# Altium integrated library Dallas Logic Delay Line.IntLib: 454 symbols (part 6 of 7)
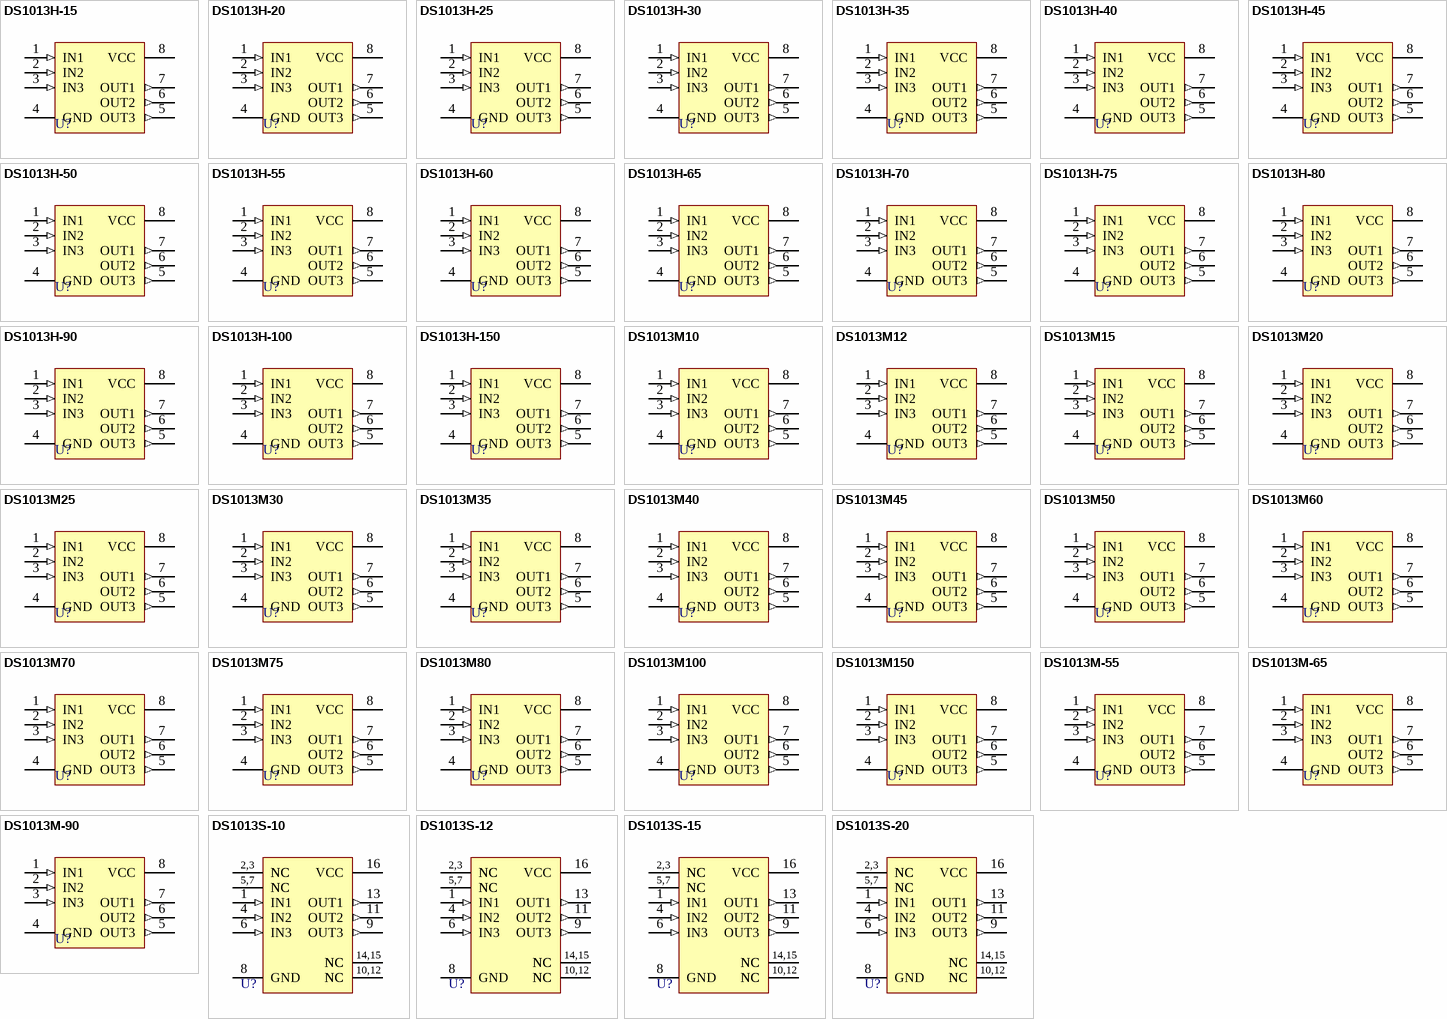
[diagram p16: symbols DS1013H-15 to DS1013S-20]

## DS1013H-60
designator U?
3-in-1 Silicon Delay Line; Published: 13-Oct-2000; LatestRevisionDate: 06-Jun-2005; LatestRevisionNote: Stylized 3D Model Added.; DatasheetDocument: Mar-1994; PackageDocument: Feb-1999; PackageReference: SOG8; Publisher: Altium Limited; ComponentLink1Description: Manufacturer Link; ComponentLink1URL: http://www.maxim-ic.com/; ComponentLink2Description: Datasheet; ComponentLink2URL: http://www.maxim-ic.com/getds.cfm?qv_pk=2605&ln=en
footprint SOG8 (Small Outline; 8 Leads; Body Width 6.4 mm; Pitch 2.54 mm)
3D model SOG8 (Small Outline; 8 Leads; Body Width 6.4 mm; Pitch 2.54 mm)
pins: 1 IN1 (in), 2 IN2 (in), 3 IN3 (in), 4 GND (power), 5 OUT3 (out), 6 OUT2 (out), 7 OUT1 (out), 8 VCC (power)

## DS1013H-65
designator U?
3-in-1 Silicon Delay Line; Published: 13-Oct-2000; LatestRevisionDate: 06-Jun-2005; LatestRevisionNote: Stylized 3D Model Added.; DatasheetDocument: Mar-1994; PackageDocument: Feb-1999; PackageReference: SOG8; Publisher: Altium Limited; ComponentLink1Description: Manufacturer Link; ComponentLink1URL: http://www.maxim-ic.com/; ComponentLink2Description: Datasheet; ComponentLink2URL: http://www.maxim-ic.com/getds.cfm?qv_pk=2605&ln=en
footprint SOG8 (Small Outline; 8 Leads; Body Width 6.4 mm; Pitch 2.54 mm)
3D model SOG8 (Small Outline; 8 Leads; Body Width 6.4 mm; Pitch 2.54 mm)
pins: 1 IN1 (in), 2 IN2 (in), 3 IN3 (in), 4 GND (power), 5 OUT3 (out), 6 OUT2 (out), 7 OUT1 (out), 8 VCC (power)

## DS1013H-70
designator U?
3-in-1 Silicon Delay Line; Published: 13-Oct-2000; LatestRevisionDate: 06-Jun-2005; LatestRevisionNote: Stylized 3D Model Added.; DatasheetDocument: Mar-1994; PackageDocument: Feb-1999; PackageReference: SOG8; Publisher: Altium Limited; ComponentLink1Description: Manufacturer Link; ComponentLink1URL: http://www.maxim-ic.com/; ComponentLink2Description: Datasheet; ComponentLink2URL: http://www.maxim-ic.com/getds.cfm?qv_pk=2605&ln=en
footprint SOG8 (Small Outline; 8 Leads; Body Width 6.4 mm; Pitch 2.54 mm)
3D model SOG8 (Small Outline; 8 Leads; Body Width 6.4 mm; Pitch 2.54 mm)
pins: 1 IN1 (in), 2 IN2 (in), 3 IN3 (in), 4 GND (power), 5 OUT3 (out), 6 OUT2 (out), 7 OUT1 (out), 8 VCC (power)

## DS1013H-75
designator U?
3-in-1 Silicon Delay Line; Published: 13-Oct-2000; LatestRevisionDate: 06-Jun-2005; LatestRevisionNote: Stylized 3D Model Added.; DatasheetDocument: Mar-1994; PackageDocument: Feb-1999; PackageReference: SOG8; Publisher: Altium Limited; ComponentLink1Description: Manufacturer Link; ComponentLink1URL: http://www.maxim-ic.com/; ComponentLink2Description: Datasheet; ComponentLink2URL: http://www.maxim-ic.com/getds.cfm?qv_pk=2605&ln=en
footprint SOG8 (Small Outline; 8 Leads; Body Width 6.4 mm; Pitch 2.54 mm)
3D model SOG8 (Small Outline; 8 Leads; Body Width 6.4 mm; Pitch 2.54 mm)
pins: 1 IN1 (in), 2 IN2 (in), 3 IN3 (in), 4 GND (power), 5 OUT3 (out), 6 OUT2 (out), 7 OUT1 (out), 8 VCC (power)

## DS1013H-80
designator U?
3-in-1 Silicon Delay Line; Published: 13-Oct-2000; LatestRevisionDate: 06-Jun-2005; LatestRevisionNote: Stylized 3D Model Added.; DatasheetDocument: Mar-1994; PackageDocument: Feb-1999; PackageReference: SOG8; Publisher: Altium Limited; ComponentLink1Description: Manufacturer Link; ComponentLink1URL: http://www.maxim-ic.com/; ComponentLink2Description: Datasheet; ComponentLink2URL: http://www.maxim-ic.com/getds.cfm?qv_pk=2605&ln=en
footprint SOG8 (Small Outline; 8 Leads; Body Width 6.4 mm; Pitch 2.54 mm)
3D model SOG8 (Small Outline; 8 Leads; Body Width 6.4 mm; Pitch 2.54 mm)
pins: 1 IN1 (in), 2 IN2 (in), 3 IN3 (in), 4 GND (power), 5 OUT3 (out), 6 OUT2 (out), 7 OUT1 (out), 8 VCC (power)

## DS1013H-90
designator U?
3-in-1 Silicon Delay Line; Published: 13-Oct-2000; LatestRevisionDate: 06-Jun-2005; LatestRevisionNote: Stylized 3D Model Added.; DatasheetDocument: Mar-1994; PackageDocument: Feb-1999; PackageReference: SOG8; Publisher: Altium Limited; ComponentLink1Description: Manufacturer Link; ComponentLink1URL: http://www.maxim-ic.com/; ComponentLink2Description: Datasheet; ComponentLink2URL: http://www.maxim-ic.com/getds.cfm?qv_pk=2605&ln=en
footprint SOG8 (Small Outline; 8 Leads; Body Width 6.4 mm; Pitch 2.54 mm)
3D model SOG8 (Small Outline; 8 Leads; Body Width 6.4 mm; Pitch 2.54 mm)
pins: 1 IN1 (in), 2 IN2 (in), 3 IN3 (in), 4 GND (power), 5 OUT3 (out), 6 OUT2 (out), 7 OUT1 (out), 8 VCC (power)

## DS1013H-100
designator U?
3-in-1 Silicon Delay Line; Published: 13-Oct-2000; LatestRevisionDate: 06-Jun-2005; LatestRevisionNote: Stylized 3D Model Added.; DatasheetDocument: Mar-1994; PackageDocument: Feb-1999; PackageReference: SOG8; Publisher: Altium Limited; ComponentLink1Description: Manufacturer Link; ComponentLink1URL: http://www.maxim-ic.com/; ComponentLink2Description: Datasheet; ComponentLink2URL: http://www.maxim-ic.com/getds.cfm?qv_pk=2605&ln=en
footprint SOG8 (Small Outline; 8 Leads; Body Width 6.4 mm; Pitch 2.54 mm)
3D model SOG8 (Small Outline; 8 Leads; Body Width 6.4 mm; Pitch 2.54 mm)
pins: 1 IN1 (in), 2 IN2 (in), 3 IN3 (in), 4 GND (power), 5 OUT3 (out), 6 OUT2 (out), 7 OUT1 (out), 8 VCC (power)

## DS1013H-150
designator U?
3-in-1 Silicon Delay Line; Published: 13-Oct-2000; LatestRevisionDate: 06-Jun-2005; LatestRevisionNote: Stylized 3D Model Added.; DatasheetDocument: Mar-1994; PackageDocument: Feb-1999; PackageReference: SOG8; Publisher: Altium Limited; ComponentLink1Description: Manufacturer Link; ComponentLink1URL: http://www.maxim-ic.com/; ComponentLink2Description: Datasheet; ComponentLink2URL: http://www.maxim-ic.com/getds.cfm?qv_pk=2605&ln=en
footprint SOG8 (Small Outline; 8 Leads; Body Width 6.4 mm; Pitch 2.54 mm)
3D model SOG8 (Small Outline; 8 Leads; Body Width 6.4 mm; Pitch 2.54 mm)
pins: 1 IN1 (in), 2 IN2 (in), 3 IN3 (in), 4 GND (power), 5 OUT3 (out), 6 OUT2 (out), 7 OUT1 (out), 8 VCC (power)

## DS1013M10
designator U?
3-in-1 Silicon Delay Line; PackageDocument: 1999; Published: 13-Oct-2000; LatestRevisionDate: 06-Jun-2005; LatestRevisionNote: Stylized 3D Model Added.; DatasheetDocument: 17-Feb-1998; PackageReference: DIP8; Publisher: Altium Limited; ComponentLink1Description: Manufacturer Link; ComponentLink1URL: http://www.maxim-ic.com/; ComponentLink2Description: Datasheet; ComponentLink2URL: http://www.maxim-ic.com/getds.cfm?qv_pk=2605&ln=en
footprint DIP8 (DIP; 8 Leads; Row Spacing 7.62 mm; Pitch 2.54 mm)
3D model DIP-8 (DIP; 8 Leads; Row Spacing 7.62 mm; Pitch 2.54 mm)
pins: 1 IN1 (in), 2 IN2 (in), 3 IN3 (in), 4 GND (power), 5 OUT3 (out), 6 OUT2 (out), 7 OUT1 (out), 8 VCC (power)

## DS1013M12
designator U?
3-in-1 Silicon Delay Line; PackageDocument: 1999; Published: 13-Oct-2000; LatestRevisionDate: 06-Jun-2005; LatestRevisionNote: Stylized 3D Model Added.; DatasheetDocument: 17-Feb-1998; PackageReference: DIP8; Publisher: Altium Limited; ComponentLink1Description: Manufacturer Link; ComponentLink1URL: http://www.maxim-ic.com/; ComponentLink2Description: Datasheet; ComponentLink2URL: http://www.maxim-ic.com/getds.cfm?qv_pk=2605&ln=en
footprint DIP8 (DIP; 8 Leads; Row Spacing 7.62 mm; Pitch 2.54 mm)
3D model DIP-8 (DIP; 8 Leads; Row Spacing 7.62 mm; Pitch 2.54 mm)
pins: 1 IN1 (in), 2 IN2 (in), 3 IN3 (in), 4 GND (power), 5 OUT3 (out), 6 OUT2 (out), 7 OUT1 (out), 8 VCC (power)

## DS1013M15
designator U?
3-in-1 Silicon Delay Line; PackageDocument: 1999; Published: 13-Oct-2000; LatestRevisionDate: 06-Jun-2005; LatestRevisionNote: Stylized 3D Model Added.; DatasheetDocument: 17-Feb-1998; PackageReference: DIP8; Publisher: Altium Limited; ComponentLink1Description: Manufacturer Link; ComponentLink1URL: http://www.maxim-ic.com/; ComponentLink2Description: Datasheet; ComponentLink2URL: http://www.maxim-ic.com/getds.cfm?qv_pk=2605&ln=en
footprint DIP8 (DIP; 8 Leads; Row Spacing 7.62 mm; Pitch 2.54 mm)
3D model DIP-8 (DIP; 8 Leads; Row Spacing 7.62 mm; Pitch 2.54 mm)
pins: 1 IN1 (in), 2 IN2 (in), 3 IN3 (in), 4 GND (power), 5 OUT3 (out), 6 OUT2 (out), 7 OUT1 (out), 8 VCC (power)

## DS1013M20
designator U?
3-in-1 Silicon Delay Line; PackageDocument: 1999; Published: 13-Oct-2000; LatestRevisionDate: 06-Jun-2005; LatestRevisionNote: Stylized 3D Model Added.; DatasheetDocument: 17-Feb-1998; PackageReference: DIP8; Publisher: Altium Limited; ComponentLink1Description: Manufacturer Link; ComponentLink1URL: http://www.maxim-ic.com/; ComponentLink2Description: Datasheet; ComponentLink2URL: http://www.maxim-ic.com/getds.cfm?qv_pk=2605&ln=en
footprint DIP8 (DIP; 8 Leads; Row Spacing 7.62 mm; Pitch 2.54 mm)
3D model DIP-8 (DIP; 8 Leads; Row Spacing 7.62 mm; Pitch 2.54 mm)
pins: 1 IN1 (in), 2 IN2 (in), 3 IN3 (in), 4 GND (power), 5 OUT3 (out), 6 OUT2 (out), 7 OUT1 (out), 8 VCC (power)

## DS1013M25
designator U?
3-in-1 Silicon Delay Line; PackageDocument: 1999; Published: 13-Oct-2000; LatestRevisionDate: 06-Jun-2005; LatestRevisionNote: Stylized 3D Model Added.; DatasheetDocument: 17-Feb-1998; PackageReference: DIP8; Publisher: Altium Limited; ComponentLink1Description: Manufacturer Link; ComponentLink1URL: http://www.maxim-ic.com/; ComponentLink2Description: Datasheet; ComponentLink2URL: http://www.maxim-ic.com/getds.cfm?qv_pk=2605&ln=en
footprint DIP8 (DIP; 8 Leads; Row Spacing 7.62 mm; Pitch 2.54 mm)
3D model DIP-8 (DIP; 8 Leads; Row Spacing 7.62 mm; Pitch 2.54 mm)
pins: 1 IN1 (in), 2 IN2 (in), 3 IN3 (in), 4 GND (power), 5 OUT3 (out), 6 OUT2 (out), 7 OUT1 (out), 8 VCC (power)

## DS1013M30
designator U?
3-in-1 Silicon Delay Line; PackageDocument: 1999; Published: 13-Oct-2000; LatestRevisionDate: 06-Jun-2005; LatestRevisionNote: Stylized 3D Model Added.; DatasheetDocument: 17-Feb-1998; PackageReference: DIP8; Publisher: Altium Limited; ComponentLink1Description: Manufacturer Link; ComponentLink1URL: http://www.maxim-ic.com/; ComponentLink2Description: Datasheet; ComponentLink2URL: http://www.maxim-ic.com/getds.cfm?qv_pk=2605&ln=en
footprint DIP8 (DIP; 8 Leads; Row Spacing 7.62 mm; Pitch 2.54 mm)
3D model DIP-8 (DIP; 8 Leads; Row Spacing 7.62 mm; Pitch 2.54 mm)
pins: 1 IN1 (in), 2 IN2 (in), 3 IN3 (in), 4 GND (power), 5 OUT3 (out), 6 OUT2 (out), 7 OUT1 (out), 8 VCC (power)

## DS1013M35
designator U?
3-in-1 Silicon Delay Line; PackageDocument: 1999; Published: 13-Oct-2000; LatestRevisionDate: 06-Jun-2005; LatestRevisionNote: Stylized 3D Model Added.; DatasheetDocument: 17-Feb-1998; PackageReference: DIP8; Publisher: Altium Limited; ComponentLink1Description: Manufacturer Link; ComponentLink1URL: http://www.maxim-ic.com/; ComponentLink2Description: Datasheet; ComponentLink2URL: http://www.maxim-ic.com/getds.cfm?qv_pk=2605&ln=en
footprint DIP8 (DIP; 8 Leads; Row Spacing 7.62 mm; Pitch 2.54 mm)
3D model DIP-8 (DIP; 8 Leads; Row Spacing 7.62 mm; Pitch 2.54 mm)
pins: 1 IN1 (in), 2 IN2 (in), 3 IN3 (in), 4 GND (power), 5 OUT3 (out), 6 OUT2 (out), 7 OUT1 (out), 8 VCC (power)

## DS1013M40
designator U?
3-in-1 Silicon Delay Line; PackageDocument: 1999; Published: 13-Oct-2000; LatestRevisionDate: 06-Jun-2005; LatestRevisionNote: Stylized 3D Model Added.; DatasheetDocument: 17-Feb-1998; PackageReference: DIP8; Publisher: Altium Limited; ComponentLink1Description: Manufacturer Link; ComponentLink1URL: http://www.maxim-ic.com/; ComponentLink2Description: Datasheet; ComponentLink2URL: http://www.maxim-ic.com/getds.cfm?qv_pk=2605&ln=en
footprint DIP8 (DIP; 8 Leads; Row Spacing 7.62 mm; Pitch 2.54 mm)
3D model DIP-8 (DIP; 8 Leads; Row Spacing 7.62 mm; Pitch 2.54 mm)
pins: 1 IN1 (in), 2 IN2 (in), 3 IN3 (in), 4 GND (power), 5 OUT3 (out), 6 OUT2 (out), 7 OUT1 (out), 8 VCC (power)

## DS1013M45
designator U?
3-in-1 Silicon Delay Line; PackageDocument: 1999; Published: 13-Oct-2000; LatestRevisionDate: 06-Jun-2005; LatestRevisionNote: Stylized 3D Model Added.; DatasheetDocument: 17-Feb-1998; PackageReference: DIP8; Publisher: Altium Limited; ComponentLink1Description: Manufacturer Link; ComponentLink1URL: http://www.maxim-ic.com/; ComponentLink2Description: Datasheet; ComponentLink2URL: http://www.maxim-ic.com/getds.cfm?qv_pk=2605&ln=en
footprint DIP8 (DIP; 8 Leads; Row Spacing 7.62 mm; Pitch 2.54 mm)
3D model DIP-8 (DIP; 8 Leads; Row Spacing 7.62 mm; Pitch 2.54 mm)
pins: 1 IN1 (in), 2 IN2 (in), 3 IN3 (in), 4 GND (power), 5 OUT3 (out), 6 OUT2 (out), 7 OUT1 (out), 8 VCC (power)

## DS1013M50
designator U?
3-in-1 Silicon Delay Line; PackageDocument: 1999; Published: 13-Oct-2000; LatestRevisionDate: 06-Jun-2005; LatestRevisionNote: Stylized 3D Model Added.; DatasheetDocument: 17-Feb-1998; PackageReference: DIP8; Publisher: Altium Limited; ComponentLink1Description: Manufacturer Link; ComponentLink1URL: http://www.maxim-ic.com/; ComponentLink2Description: Datasheet; ComponentLink2URL: http://www.maxim-ic.com/getds.cfm?qv_pk=2605&ln=en
footprint DIP8 (DIP; 8 Leads; Row Spacing 7.62 mm; Pitch 2.54 mm)
3D model DIP-8 (DIP; 8 Leads; Row Spacing 7.62 mm; Pitch 2.54 mm)
pins: 1 IN1 (in), 2 IN2 (in), 3 IN3 (in), 4 GND (power), 5 OUT3 (out), 6 OUT2 (out), 7 OUT1 (out), 8 VCC (power)

## DS1013M60
designator U?
3-in-1 Silicon Delay Line; PackageDocument: 1999; Published: 13-Oct-2000; LatestRevisionDate: 06-Jun-2005; LatestRevisionNote: Stylized 3D Model Added.; DatasheetDocument: 17-Feb-1998; PackageReference: DIP8; Publisher: Altium Limited; ComponentLink1Description: Manufacturer Link; ComponentLink1URL: http://www.maxim-ic.com/; ComponentLink2Description: Datasheet; ComponentLink2URL: http://www.maxim-ic.com/getds.cfm?qv_pk=2605&ln=en
footprint DIP8 (DIP; 8 Leads; Row Spacing 7.62 mm; Pitch 2.54 mm)
3D model DIP-8 (DIP; 8 Leads; Row Spacing 7.62 mm; Pitch 2.54 mm)
pins: 1 IN1 (in), 2 IN2 (in), 3 IN3 (in), 4 GND (power), 5 OUT3 (out), 6 OUT2 (out), 7 OUT1 (out), 8 VCC (power)

## DS1013M70
designator U?
3-in-1 Silicon Delay Line; PackageDocument: 1999; Published: 13-Oct-2000; LatestRevisionDate: 06-Jun-2005; LatestRevisionNote: Stylized 3D Model Added.; DatasheetDocument: 17-Feb-1998; PackageReference: DIP8; Publisher: Altium Limited; ComponentLink1Description: Manufacturer Link; ComponentLink1URL: http://www.maxim-ic.com/; ComponentLink2Description: Datasheet; ComponentLink2URL: http://www.maxim-ic.com/getds.cfm?qv_pk=2605&ln=en
footprint DIP8 (DIP; 8 Leads; Row Spacing 7.62 mm; Pitch 2.54 mm)
3D model DIP-8 (DIP; 8 Leads; Row Spacing 7.62 mm; Pitch 2.54 mm)
pins: 1 IN1 (in), 2 IN2 (in), 3 IN3 (in), 4 GND (power), 5 OUT3 (out), 6 OUT2 (out), 7 OUT1 (out), 8 VCC (power)

## DS1013M75
designator U?
3-in-1 Silicon Delay Line; PackageDocument: 1999; Published: 13-Oct-2000; LatestRevisionDate: 06-Jun-2005; LatestRevisionNote: Stylized 3D Model Added.; DatasheetDocument: 17-Feb-1998; PackageReference: DIP8; Publisher: Altium Limited; ComponentLink1Description: Manufacturer Link; ComponentLink1URL: http://www.maxim-ic.com/; ComponentLink2Description: Datasheet; ComponentLink2URL: http://www.maxim-ic.com/getds.cfm?qv_pk=2605&ln=en
footprint DIP8 (DIP; 8 Leads; Row Spacing 7.62 mm; Pitch 2.54 mm)
3D model DIP-8 (DIP; 8 Leads; Row Spacing 7.62 mm; Pitch 2.54 mm)
pins: 1 IN1 (in), 2 IN2 (in), 3 IN3 (in), 4 GND (power), 5 OUT3 (out), 6 OUT2 (out), 7 OUT1 (out), 8 VCC (power)

## DS1013M80
designator U?
3-in-1 Silicon Delay Line; PackageDocument: 1999; Published: 13-Oct-2000; LatestRevisionDate: 06-Jun-2005; LatestRevisionNote: Stylized 3D Model Added.; DatasheetDocument: 17-Feb-1998; PackageReference: DIP8; Publisher: Altium Limited; ComponentLink1Description: Manufacturer Link; ComponentLink1URL: http://www.maxim-ic.com/; ComponentLink2Description: Datasheet; ComponentLink2URL: http://www.maxim-ic.com/getds.cfm?qv_pk=2605&ln=en
footprint DIP8 (DIP; 8 Leads; Row Spacing 7.62 mm; Pitch 2.54 mm)
3D model DIP-8 (DIP; 8 Leads; Row Spacing 7.62 mm; Pitch 2.54 mm)
pins: 1 IN1 (in), 2 IN2 (in), 3 IN3 (in), 4 GND (power), 5 OUT3 (out), 6 OUT2 (out), 7 OUT1 (out), 8 VCC (power)

## DS1013M100
designator U?
3-in-1 Silicon Delay Line; PackageDocument: 1999; Published: 13-Oct-2000; LatestRevisionDate: 06-Jun-2005; LatestRevisionNote: Stylized 3D Model Added.; DatasheetDocument: 17-Feb-1998; PackageReference: DIP8; Publisher: Altium Limited; ComponentLink1Description: Manufacturer Link; ComponentLink1URL: http://www.maxim-ic.com/; ComponentLink2Description: Datasheet; ComponentLink2URL: http://www.maxim-ic.com/getds.cfm?qv_pk=2605&ln=en
footprint DIP8 (DIP; 8 Leads; Row Spacing 7.62 mm; Pitch 2.54 mm)
3D model DIP-8 (DIP; 8 Leads; Row Spacing 7.62 mm; Pitch 2.54 mm)
pins: 1 IN1 (in), 2 IN2 (in), 3 IN3 (in), 4 GND (power), 5 OUT3 (out), 6 OUT2 (out), 7 OUT1 (out), 8 VCC (power)

## DS1013M150
designator U?
3-in-1 Silicon Delay Line; PackageDocument: 1999; Published: 13-Oct-2000; LatestRevisionDate: 06-Jun-2005; LatestRevisionNote: Stylized 3D Model Added.; DatasheetDocument: 17-Feb-1998; PackageReference: DIP8; Publisher: Altium Limited; ComponentLink1Description: Manufacturer Link; ComponentLink1URL: http://www.maxim-ic.com/; ComponentLink2Description: Datasheet; ComponentLink2URL: http://www.maxim-ic.com/getds.cfm?qv_pk=2605&ln=en
footprint DIP8 (DIP; 8 Leads; Row Spacing 7.62 mm; Pitch 2.54 mm)
3D model DIP-8 (DIP; 8 Leads; Row Spacing 7.62 mm; Pitch 2.54 mm)
pins: 1 IN1 (in), 2 IN2 (in), 3 IN3 (in), 4 GND (power), 5 OUT3 (out), 6 OUT2 (out), 7 OUT1 (out), 8 VCC (power)

## DS1013M-55
designator U?
3-in-1 Silicon Delay Line; PackageDocument: 1999; Published: 13-Oct-2000; LatestRevisionDate: 06-Jun-2005; LatestRevisionNote: Stylized 3D Model Added.; DatasheetDocument: Mar-1994; PackageReference: DIP8; Publisher: Altium Limited; ComponentLink1Description: Manufacturer Link; ComponentLink1URL: http://www.maxim-ic.com/; ComponentLink2Description: Datasheet; ComponentLink2URL: http://www.maxim-ic.com/getds.cfm?qv_pk=2605&ln=en
footprint DIP8 (DIP; 8 Leads; Row Spacing 7.62 mm; Pitch 2.54 mm)
3D model DIP-8 (DIP; 8 Leads; Row Spacing 7.62 mm; Pitch 2.54 mm)
pins: 1 IN1 (in), 2 IN2 (in), 3 IN3 (in), 4 GND (power), 5 OUT3 (out), 6 OUT2 (out), 7 OUT1 (out), 8 VCC (power)

## DS1013M-65
designator U?
3-in-1 Silicon Delay Line; PackageDocument: 1999; Published: 13-Oct-2000; LatestRevisionDate: 06-Jun-2005; LatestRevisionNote: Stylized 3D Model Added.; DatasheetDocument: Mar-1994; PackageReference: DIP8; Publisher: Altium Limited; ComponentLink1Description: Manufacturer Link; ComponentLink1URL: http://www.maxim-ic.com/; ComponentLink2Description: Datasheet; ComponentLink2URL: http://www.maxim-ic.com/getds.cfm?qv_pk=2605&ln=en
footprint DIP8 (DIP; 8 Leads; Row Spacing 7.62 mm; Pitch 2.54 mm)
3D model DIP-8 (DIP; 8 Leads; Row Spacing 7.62 mm; Pitch 2.54 mm)
pins: 1 IN1 (in), 2 IN2 (in), 3 IN3 (in), 4 GND (power), 5 OUT3 (out), 6 OUT2 (out), 7 OUT1 (out), 8 VCC (power)

## DS1013M-90
designator U?
3-in-1 Silicon Delay Line; PackageDocument: 1999; Published: 13-Oct-2000; LatestRevisionDate: 06-Jun-2005; LatestRevisionNote: Stylized 3D Model Added.; DatasheetDocument: Mar-1994; PackageReference: DIP8; Publisher: Altium Limited; ComponentLink1Description: Manufacturer Link; ComponentLink1URL: http://www.maxim-ic.com/; ComponentLink2Description: Datasheet; ComponentLink2URL: http://www.maxim-ic.com/getds.cfm?qv_pk=2605&ln=en
footprint DIP8 (DIP; 8 Leads; Row Spacing 7.62 mm; Pitch 2.54 mm)
3D model DIP-8 (DIP; 8 Leads; Row Spacing 7.62 mm; Pitch 2.54 mm)
pins: 1 IN1 (in), 2 IN2 (in), 3 IN3 (in), 4 GND (power), 5 OUT3 (out), 6 OUT2 (out), 7 OUT1 (out), 8 VCC (power)

## DS1013S-10
designator U?
3-in-1 Silicon Delay Line; PackageDocument: 1999; Note: Pin numbers 2, 3, 5, 7, 10, 12, 14 and 15 are Not Connected (NC); Published: 13-Oct-2000; LatestRevisionDate: 06-Jun-2005; LatestRevisionNote: Stylized 3D Model Added.; DatasheetDocument: 17-Feb-1998; PackageReference: SOIC16W; Publisher: Altium Limited; ComponentLink1Description: Manufacturer Link; ComponentLink1URL: http://www.maxim-ic.com/; ComponentLink2Description: Datasheet; ComponentLink2URL: http://www.maxim-ic.com/getds.cfm?qv_pk=2605&ln=en
footprint SOIC16W (Small Outline; 16 Leads; Body Width 7.5 mm; Pitch 1.27 mm)
3D model SOIC16W (Small Outline; 16 Leads; Body Width 7.5 mm; Pitch 1.27 mm)
pins: 1 IN1 (in), 2 NC, 3 NC, 4 IN2 (in), 5 NC, 6 IN3 (in), 7 NC, 8 GND (power), 9 OUT3 (out), 10 NC, 11 OUT2 (out), 12 NC, 13 OUT1 (out), 14 NC, 15 NC, 16 VCC (power)
text: 2,3; 5,7; 14,15; 10,12

## DS1013S-12
designator U?
3-in-1 Silicon Delay Line; PackageDocument: 1999; Note: Pin numbers 2, 3, 5, 7, 10, 12, 14 and 15 are Not Connected (NC); Published: 13-Oct-2000; LatestRevisionDate: 06-Jun-2005; LatestRevisionNote: Stylized 3D Model Added.; DatasheetDocument: 17-Feb-1998; PackageReference: SOIC16W; Publisher: Altium Limited; ComponentLink1Description: Manufacturer Link; ComponentLink1URL: http://www.maxim-ic.com/; ComponentLink2Description: Datasheet; ComponentLink2URL: http://www.maxim-ic.com/getds.cfm?qv_pk=2605&ln=en
footprint SOIC16W (Small Outline; 16 Leads; Body Width 7.5 mm; Pitch 1.27 mm)
3D model SOIC16W (Small Outline; 16 Leads; Body Width 7.5 mm; Pitch 1.27 mm)
pins: 1 IN1 (in), 2 NC, 3 NC, 4 IN2 (in), 5 NC, 6 IN3 (in), 7 NC, 8 GND (power), 9 OUT3 (out), 10 NC, 11 OUT2 (out), 12 NC, 13 OUT1 (out), 14 NC, 15 NC, 16 VCC (power)
text: 2,3; 5,7; 14,15; 10,12

## DS1013S-15
designator U?
3-in-1 Silicon Delay Line; PackageDocument: 1999; Note: Pin numbers 2, 3, 5, 7, 10, 12, 14 and 15 are Not Connected (NC); Published: 13-Oct-2000; LatestRevisionDate: 06-Jun-2005; LatestRevisionNote: Stylized 3D Model Added.; DatasheetDocument: 17-Feb-1998; PackageReference: SOIC16W; Publisher: Altium Limited; ComponentLink1Description: Manufacturer Link; ComponentLink1URL: http://www.maxim-ic.com/; ComponentLink2Description: Datasheet; ComponentLink2URL: http://www.maxim-ic.com/getds.cfm?qv_pk=2605&ln=en
footprint SOIC16W (Small Outline; 16 Leads; Body Width 7.5 mm; Pitch 1.27 mm)
3D model SOIC16W (Small Outline; 16 Leads; Body Width 7.5 mm; Pitch 1.27 mm)
pins: 1 IN1 (in), 2 NC, 3 NC, 4 IN2 (in), 5 NC, 6 IN3 (in), 7 NC, 8 GND (power), 9 OUT3 (out), 10 NC, 11 OUT2 (out), 12 NC, 13 OUT1 (out), 14 NC, 15 NC, 16 VCC (power)
text: 2,3; 5,7; 14,15; 10,12

## DS1013S-20
designator U?
3-in-1 Silicon Delay Line; PackageDocument: 1999; Note: Pin numbers 2, 3, 5, 7, 10, 12, 14 and 15 are Not Connected (NC); Published: 13-Oct-2000; LatestRevisionDate: 06-Jun-2005; LatestRevisionNote: Stylized 3D Model Added.; DatasheetDocument: 17-Feb-1998; PackageReference: SOIC16W; Publisher: Altium Limited; ComponentLink1Description: Manufacturer Link; ComponentLink1URL: http://www.maxim-ic.com/; ComponentLink2Description: Datasheet; ComponentLink2URL: http://www.maxim-ic.com/getds.cfm?qv_pk=2605&ln=en
footprint SOIC16W (Small Outline; 16 Leads; Body Width 7.5 mm; Pitch 1.27 mm)
3D model SOIC16W (Small Outline; 16 Leads; Body Width 7.5 mm; Pitch 1.27 mm)
pins: 1 IN1 (in), 2 NC, 3 NC, 4 IN2 (in), 5 NC, 6 IN3 (in), 7 NC, 8 GND (power), 9 OUT3 (out), 10 NC, 11 OUT2 (out), 12 NC, 13 OUT1 (out), 14 NC, 15 NC, 16 VCC (power)
text: 2,3; 5,7; 14,15; 10,12

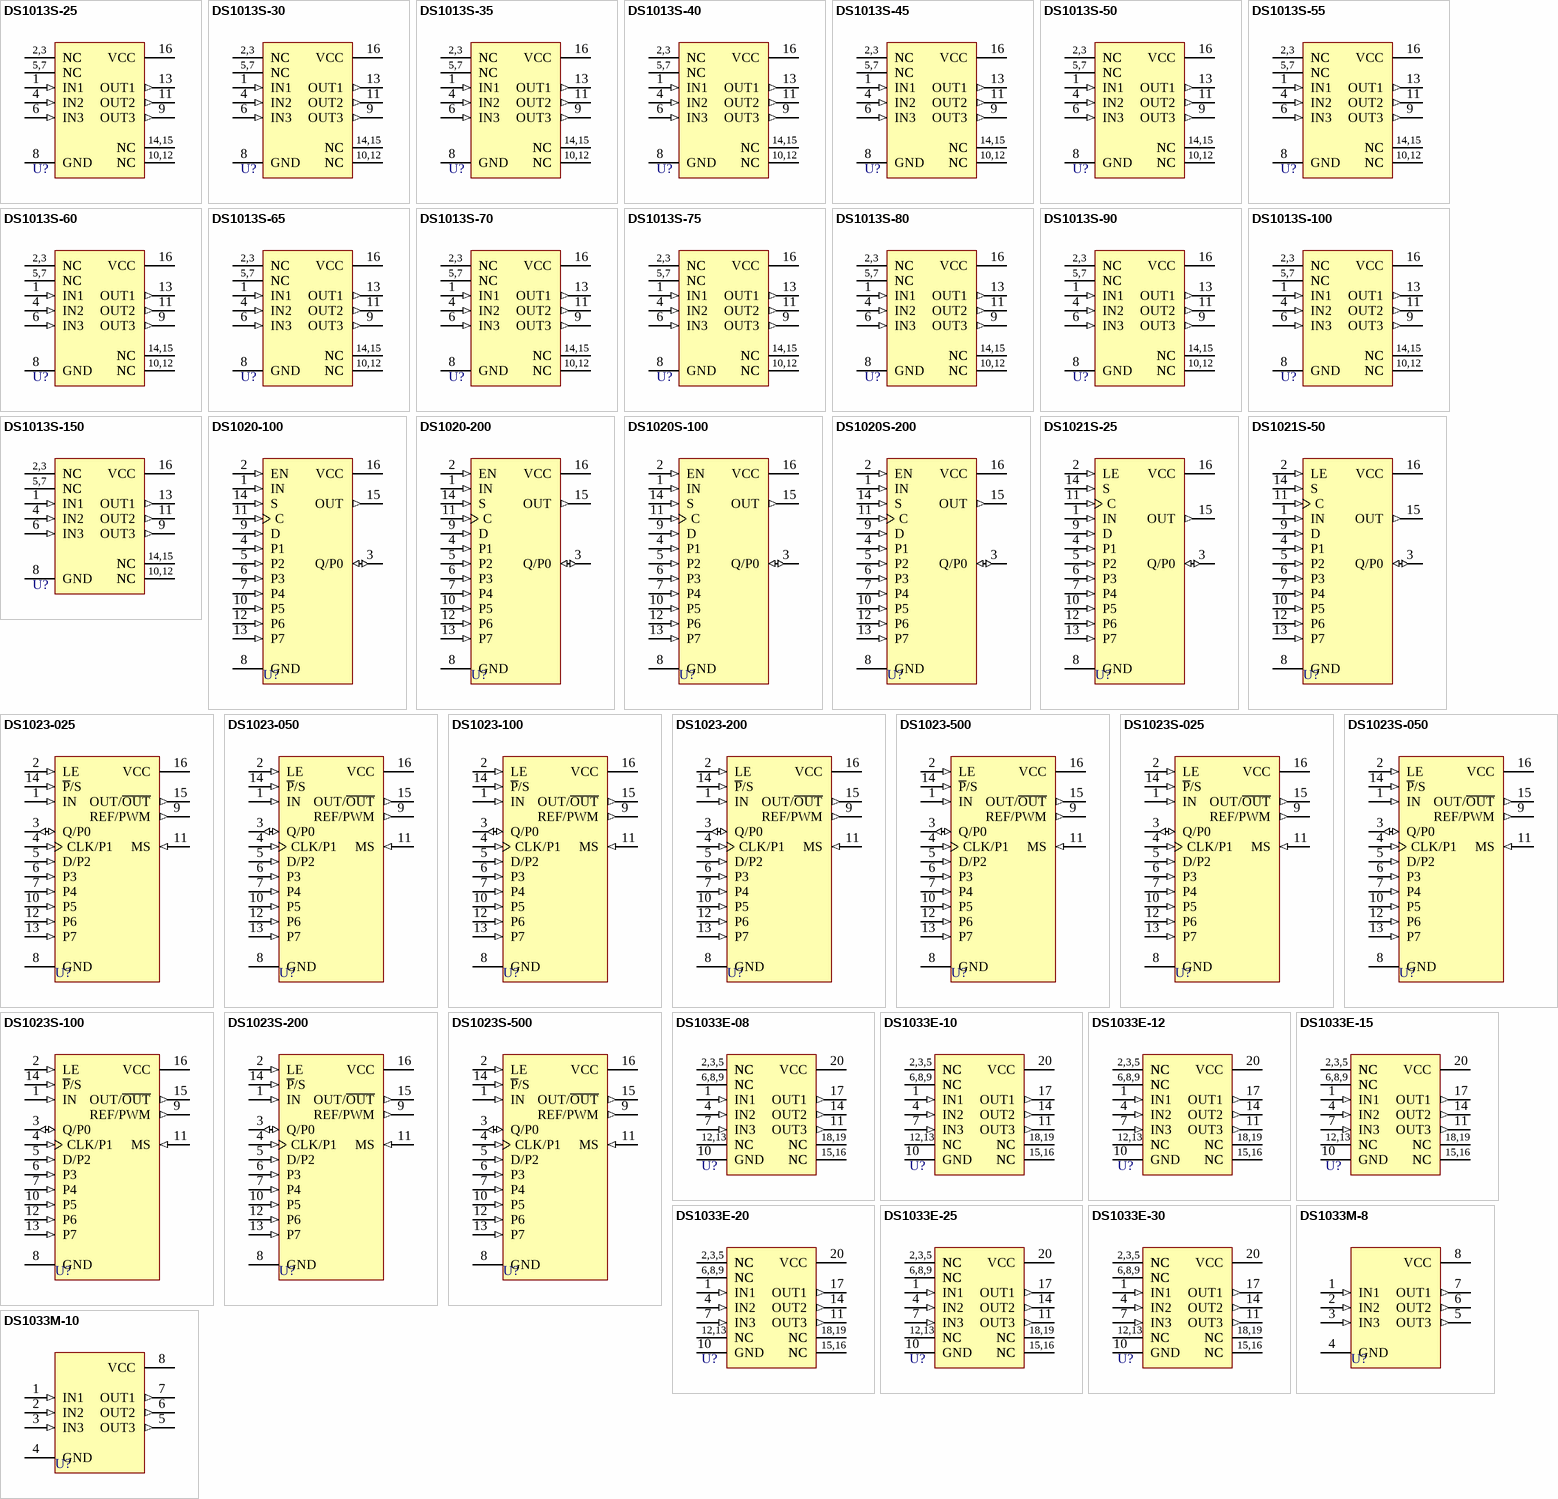
[diagram p9: symbols DS1013S-25 to DS1033M-10]

## DS1013S-25
designator U?
3-in-1 Silicon Delay Line; PackageDocument: 1999; Note: Pin numbers 2, 3, 5, 7, 10, 12, 14 and 15 are Not Connected (NC); Published: 13-Oct-2000; LatestRevisionDate: 06-Jun-2005; LatestRevisionNote: Stylized 3D Model Added.; DatasheetDocument: 17-Feb-1998; PackageReference: SOIC16W; Publisher: Altium Limited; ComponentLink1Description: Manufacturer Link; ComponentLink1URL: http://www.maxim-ic.com/; ComponentLink2Description: Datasheet; ComponentLink2URL: http://www.maxim-ic.com/getds.cfm?qv_pk=2605&ln=en
footprint SOIC16W (Small Outline; 16 Leads; Body Width 7.5 mm; Pitch 1.27 mm)
3D model SOIC16W (Small Outline; 16 Leads; Body Width 7.5 mm; Pitch 1.27 mm)
pins: 1 IN1 (in), 2 NC, 3 NC, 4 IN2 (in), 5 NC, 6 IN3 (in), 7 NC, 8 GND (power), 9 OUT3 (out), 10 NC, 11 OUT2 (out), 12 NC, 13 OUT1 (out), 14 NC, 15 NC, 16 VCC (power)
text: 2,3; 5,7; 14,15; 10,12

## DS1013S-30
designator U?
3-in-1 Silicon Delay Line; PackageDocument: 1999; Note: Pin numbers 2, 3, 5, 7, 10, 12, 14 and 15 are Not Connected (NC); Published: 13-Oct-2000; LatestRevisionDate: 06-Jun-2005; LatestRevisionNote: Stylized 3D Model Added.; DatasheetDocument: 17-Feb-1998; PackageReference: SOIC16W; Publisher: Altium Limited; ComponentLink1Description: Manufacturer Link; ComponentLink1URL: http://www.maxim-ic.com/; ComponentLink2Description: Datasheet; ComponentLink2URL: http://www.maxim-ic.com/getds.cfm?qv_pk=2605&ln=en
footprint SOIC16W (Small Outline; 16 Leads; Body Width 7.5 mm; Pitch 1.27 mm)
3D model SOIC16W (Small Outline; 16 Leads; Body Width 7.5 mm; Pitch 1.27 mm)
pins: 1 IN1 (in), 2 NC, 3 NC, 4 IN2 (in), 5 NC, 6 IN3 (in), 7 NC, 8 GND (power), 9 OUT3 (out), 10 NC, 11 OUT2 (out), 12 NC, 13 OUT1 (out), 14 NC, 15 NC, 16 VCC (power)
text: 2,3; 5,7; 14,15; 10,12

## DS1013S-35
designator U?
3-in-1 Silicon Delay Line; PackageDocument: 1999; Note: Pin numbers 2, 3, 5, 7, 10, 12, 14 and 15 are Not Connected (NC); Published: 13-Oct-2000; LatestRevisionDate: 06-Jun-2005; LatestRevisionNote: Stylized 3D Model Added.; DatasheetDocument: 17-Feb-1998; PackageReference: SOIC16W; Publisher: Altium Limited; ComponentLink1Description: Manufacturer Link; ComponentLink1URL: http://www.maxim-ic.com/; ComponentLink2Description: Datasheet; ComponentLink2URL: http://www.maxim-ic.com/getds.cfm?qv_pk=2605&ln=en
footprint SOIC16W (Small Outline; 16 Leads; Body Width 7.5 mm; Pitch 1.27 mm)
3D model SOIC16W (Small Outline; 16 Leads; Body Width 7.5 mm; Pitch 1.27 mm)
pins: 1 IN1 (in), 2 NC, 3 NC, 4 IN2 (in), 5 NC, 6 IN3 (in), 7 NC, 8 GND (power), 9 OUT3 (out), 10 NC, 11 OUT2 (out), 12 NC, 13 OUT1 (out), 14 NC, 15 NC, 16 VCC (power)
text: 2,3; 5,7; 14,15; 10,12

## DS1013S-40
designator U?
3-in-1 Silicon Delay Line; PackageDocument: 1999; Note: Pin numbers 2, 3, 5, 7, 10, 12, 14 and 15 are Not Connected (NC); Published: 13-Oct-2000; LatestRevisionDate: 06-Jun-2005; LatestRevisionNote: Stylized 3D Model Added.; DatasheetDocument: 17-Feb-1998; PackageReference: SOIC16W; Publisher: Altium Limited; ComponentLink1Description: Manufacturer Link; ComponentLink1URL: http://www.maxim-ic.com/; ComponentLink2Description: Datasheet; ComponentLink2URL: http://www.maxim-ic.com/getds.cfm?qv_pk=2605&ln=en
footprint SOIC16W (Small Outline; 16 Leads; Body Width 7.5 mm; Pitch 1.27 mm)
3D model SOIC16W (Small Outline; 16 Leads; Body Width 7.5 mm; Pitch 1.27 mm)
pins: 1 IN1 (in), 2 NC, 3 NC, 4 IN2 (in), 5 NC, 6 IN3 (in), 7 NC, 8 GND (power), 9 OUT3 (out), 10 NC, 11 OUT2 (out), 12 NC, 13 OUT1 (out), 14 NC, 15 NC, 16 VCC (power)
text: 2,3; 5,7; 14,15; 10,12

## DS1013S-45
designator U?
3-in-1 Silicon Delay Line; PackageDocument: 1999; Note: Pin numbers 2, 3, 5, 7, 10, 12, 14 and 15 are Not Connected (NC); Published: 13-Oct-2000; LatestRevisionDate: 06-Jun-2005; LatestRevisionNote: Stylized 3D Model Added.; DatasheetDocument: 17-Feb-1998; PackageReference: SOIC16W; Publisher: Altium Limited; ComponentLink1Description: Manufacturer Link; ComponentLink1URL: http://www.maxim-ic.com/; ComponentLink2Description: Datasheet; ComponentLink2URL: http://www.maxim-ic.com/getds.cfm?qv_pk=2605&ln=en
footprint SOIC16W (Small Outline; 16 Leads; Body Width 7.5 mm; Pitch 1.27 mm)
3D model SOIC16W (Small Outline; 16 Leads; Body Width 7.5 mm; Pitch 1.27 mm)
pins: 1 IN1 (in), 2 NC, 3 NC, 4 IN2 (in), 5 NC, 6 IN3 (in), 7 NC, 8 GND (power), 9 OUT3 (out), 10 NC, 11 OUT2 (out), 12 NC, 13 OUT1 (out), 14 NC, 15 NC, 16 VCC (power)
text: 2,3; 5,7; 14,15; 10,12

## DS1013S-50
designator U?
3-in-1 Silicon Delay Line; PackageDocument: 1999; Note: Pin numbers 2, 3, 5, 7, 10, 12, 14 and 15 are Not Connected (NC); Published: 13-Oct-2000; LatestRevisionDate: 06-Jun-2005; LatestRevisionNote: Stylized 3D Model Added.; DatasheetDocument: 17-Feb-1998; PackageReference: SOIC16W; Publisher: Altium Limited; ComponentLink1Description: Manufacturer Link; ComponentLink1URL: http://www.maxim-ic.com/; ComponentLink2Description: Datasheet; ComponentLink2URL: http://www.maxim-ic.com/getds.cfm?qv_pk=2605&ln=en
footprint SOIC16W (Small Outline; 16 Leads; Body Width 7.5 mm; Pitch 1.27 mm)
3D model SOIC16W (Small Outline; 16 Leads; Body Width 7.5 mm; Pitch 1.27 mm)
pins: 1 IN1 (in), 2 NC, 3 NC, 4 IN2 (in), 5 NC, 6 IN3 (in), 7 NC, 8 GND (power), 9 OUT3 (out), 10 NC, 11 OUT2 (out), 12 NC, 13 OUT1 (out), 14 NC, 15 NC, 16 VCC (power)
text: 2,3; 5,7; 14,15; 10,12

## DS1013S-55
designator U?
3-in-1 Silicon Delay Line; PackageDocument: 1994; Note: Pin numbers 2, 3, 5, 7, 10, 12, 14 and 15 are Not Connected (NC); Published: 13-Oct-2000; LatestRevisionDate: 06-Jun-2005; LatestRevisionNote: Stylized 3D Model Added.; DatasheetDocument: Mar-1994; PackageReference: SOIC16WA; Publisher: Altium Limited; ComponentLink1Description: Manufacturer Link; ComponentLink1URL: http://www.maxim-ic.com/; ComponentLink2Description: Datasheet; ComponentLink2URL: http://www.maxim-ic.com/getds.cfm?qv_pk=2605&ln=en
footprint SOIC16WA (Small Outline; 16 Leads; Body Width 7.5 mm; Pitch 1.27 mm)
3D model SOIC16W (Small Outline; 16 Leads; Body Width 7.5 mm; Pitch 1.27 mm)
pins: 1 IN1 (in), 2 NC, 3 NC, 4 IN2 (in), 5 NC, 6 IN3 (in), 7 NC, 8 GND (power), 9 OUT3 (out), 10 NC, 11 OUT2 (out), 12 NC, 13 OUT1 (out), 14 NC, 15 NC, 16 VCC (power)
text: 2,3; 5,7; 14,15; 10,12

## DS1013S-60
designator U?
3-in-1 Silicon Delay Line; PackageDocument: 1999; Note: Pin numbers 2, 3, 5, 7, 10, 12, 14 and 15 are Not Connected (NC); Published: 13-Oct-2000; LatestRevisionDate: 06-Jun-2005; LatestRevisionNote: Stylized 3D Model Added.; DatasheetDocument: 17-Feb-1998; PackageReference: SOIC16W; Publisher: Altium Limited; ComponentLink1Description: Manufacturer Link; ComponentLink1URL: http://www.maxim-ic.com/; ComponentLink2Description: Datasheet; ComponentLink2URL: http://www.maxim-ic.com/getds.cfm?qv_pk=2605&ln=en
footprint SOIC16W (Small Outline; 16 Leads; Body Width 7.5 mm; Pitch 1.27 mm)
3D model SOIC16W (Small Outline; 16 Leads; Body Width 7.5 mm; Pitch 1.27 mm)
pins: 1 IN1 (in), 2 NC, 3 NC, 4 IN2 (in), 5 NC, 6 IN3 (in), 7 NC, 8 GND (power), 9 OUT3 (out), 10 NC, 11 OUT2 (out), 12 NC, 13 OUT1 (out), 14 NC, 15 NC, 16 VCC (power)
text: 2,3; 5,7; 14,15; 10,12

## DS1013S-65
designator U?
3-in-1 Silicon Delay Line; PackageDocument: 1994; Note: Pin numbers 2, 3, 5, 7, 10, 12, 14 and 15 are Not Connected (NC); Published: 13-Oct-2000; LatestRevisionDate: 06-Jun-2005; LatestRevisionNote: Stylized 3D Model Added.; DatasheetDocument: Mar-1994; PackageReference: SOIC16WA; Publisher: Altium Limited; ComponentLink1Description: Manufacturer Link; ComponentLink1URL: http://www.maxim-ic.com/; ComponentLink2Description: Datasheet; ComponentLink2URL: http://www.maxim-ic.com/getds.cfm?qv_pk=2605&ln=en
footprint SOIC16WA (Small Outline; 16 Leads; Body Width 7.5 mm; Pitch 1.27 mm)
3D model SOIC16W (Small Outline; 16 Leads; Body Width 7.5 mm; Pitch 1.27 mm)
pins: 1 IN1 (in), 2 NC, 3 NC, 4 IN2 (in), 5 NC, 6 IN3 (in), 7 NC, 8 GND (power), 9 OUT3 (out), 10 NC, 11 OUT2 (out), 12 NC, 13 OUT1 (out), 14 NC, 15 NC, 16 VCC (power)
text: 2,3; 5,7; 14,15; 10,12

## DS1013S-70
designator U?
3-in-1 Silicon Delay Line; PackageDocument: 1999; Note: Pin numbers 2, 3, 5, 7, 10, 12, 14 and 15 are Not Connected (NC); Published: 13-Oct-2000; LatestRevisionDate: 06-Jun-2005; LatestRevisionNote: Stylized 3D Model Added.; DatasheetDocument: 17-Feb-1998; PackageReference: SOIC16W; Publisher: Altium Limited; ComponentLink1Description: Manufacturer Link; ComponentLink1URL: http://www.maxim-ic.com/; ComponentLink2Description: Datasheet; ComponentLink2URL: http://www.maxim-ic.com/getds.cfm?qv_pk=2605&ln=en
footprint SOIC16W (Small Outline; 16 Leads; Body Width 7.5 mm; Pitch 1.27 mm)
3D model SOIC16W (Small Outline; 16 Leads; Body Width 7.5 mm; Pitch 1.27 mm)
pins: 1 IN1 (in), 2 NC, 3 NC, 4 IN2 (in), 5 NC, 6 IN3 (in), 7 NC, 8 GND (power), 9 OUT3 (out), 10 NC, 11 OUT2 (out), 12 NC, 13 OUT1 (out), 14 NC, 15 NC, 16 VCC (power)
text: 2,3; 5,7; 14,15; 10,12

## DS1013S-75
designator U?
3-in-1 Silicon Delay Line; PackageDocument: 1999; Note: Pin numbers 2, 3, 5, 7, 10, 12, 14 and 15 are Not Connected (NC); Published: 13-Oct-2000; LatestRevisionDate: 06-Jun-2005; LatestRevisionNote: Stylized 3D Model Added.; DatasheetDocument: 17-Feb-1998; PackageReference: SOIC16W; Publisher: Altium Limited; ComponentLink1Description: Manufacturer Link; ComponentLink1URL: http://www.maxim-ic.com/; ComponentLink2Description: Datasheet; ComponentLink2URL: http://www.maxim-ic.com/getds.cfm?qv_pk=2605&ln=en
footprint SOIC16W (Small Outline; 16 Leads; Body Width 7.5 mm; Pitch 1.27 mm)
3D model SOIC16W (Small Outline; 16 Leads; Body Width 7.5 mm; Pitch 1.27 mm)
pins: 1 IN1 (in), 2 NC, 3 NC, 4 IN2 (in), 5 NC, 6 IN3 (in), 7 NC, 8 GND (power), 9 OUT3 (out), 10 NC, 11 OUT2 (out), 12 NC, 13 OUT1 (out), 14 NC, 15 NC, 16 VCC (power)
text: 2,3; 5,7; 14,15; 10,12

## DS1013S-80
designator U?
3-in-1 Silicon Delay Line; PackageDocument: 1999; Note: Pin numbers 2, 3, 5, 7, 10, 12, 14 and 15 are Not Connected (NC); Published: 13-Oct-2000; LatestRevisionDate: 06-Jun-2005; LatestRevisionNote: Stylized 3D Model Added.; DatasheetDocument: 17-Feb-1998; PackageReference: SOIC16W; Publisher: Altium Limited; ComponentLink1Description: Manufacturer Link; ComponentLink1URL: http://www.maxim-ic.com/; ComponentLink2Description: Datasheet; ComponentLink2URL: http://www.maxim-ic.com/getds.cfm?qv_pk=2605&ln=en
footprint SOIC16W (Small Outline; 16 Leads; Body Width 7.5 mm; Pitch 1.27 mm)
3D model SOIC16W (Small Outline; 16 Leads; Body Width 7.5 mm; Pitch 1.27 mm)
pins: 1 IN1 (in), 2 NC, 3 NC, 4 IN2 (in), 5 NC, 6 IN3 (in), 7 NC, 8 GND (power), 9 OUT3 (out), 10 NC, 11 OUT2 (out), 12 NC, 13 OUT1 (out), 14 NC, 15 NC, 16 VCC (power)
text: 2,3; 5,7; 14,15; 10,12

## DS1013S-90
designator U?
3-in-1 Silicon Delay Line; PackageDocument: 1994; Note: Pin numbers 2, 3, 5, 7, 10, 12, 14 and 15 are Not Connected (NC); Published: 13-Oct-2000; LatestRevisionDate: 06-Jun-2005; LatestRevisionNote: Stylized 3D Model Added.; DatasheetDocument: Mar-1994; PackageReference: SOIC16WA; Publisher: Altium Limited; ComponentLink1Description: Manufacturer Link; ComponentLink1URL: http://www.maxim-ic.com/; ComponentLink2Description: Datasheet; ComponentLink2URL: http://www.maxim-ic.com/getds.cfm?qv_pk=2605&ln=en
footprint SOIC16WA (Small Outline; 16 Leads; Body Width 7.5 mm; Pitch 1.27 mm)
3D model SOIC16W (Small Outline; 16 Leads; Body Width 7.5 mm; Pitch 1.27 mm)
pins: 1 IN1 (in), 2 NC, 3 NC, 4 IN2 (in), 5 NC, 6 IN3 (in), 7 NC, 8 GND (power), 9 OUT3 (out), 10 NC, 11 OUT2 (out), 12 NC, 13 OUT1 (out), 14 NC, 15 NC, 16 VCC (power)
text: 2,3; 5,7; 14,15; 10,12

## DS1013S-100
designator U?
3-in-1 Silicon Delay Line; PackageDocument: 1999; Note: Pin numbers 2, 3, 5, 7, 10, 12, 14 and 15 are Not Connected (NC); Published: 13-Oct-2000; LatestRevisionDate: 06-Jun-2005; LatestRevisionNote: Stylized 3D Model Added.; DatasheetDocument: 17-Feb-1998; PackageReference: SOIC16W; Publisher: Altium Limited; ComponentLink1Description: Manufacturer Link; ComponentLink1URL: http://www.maxim-ic.com/; ComponentLink2Description: Datasheet; ComponentLink2URL: http://www.maxim-ic.com/getds.cfm?qv_pk=2605&ln=en
footprint SOIC16W (Small Outline; 16 Leads; Body Width 7.5 mm; Pitch 1.27 mm)
3D model SOIC16W (Small Outline; 16 Leads; Body Width 7.5 mm; Pitch 1.27 mm)
pins: 1 IN1 (in), 2 NC, 3 NC, 4 IN2 (in), 5 NC, 6 IN3 (in), 7 NC, 8 GND (power), 9 OUT3 (out), 10 NC, 11 OUT2 (out), 12 NC, 13 OUT1 (out), 14 NC, 15 NC, 16 VCC (power)
text: 2,3; 5,7; 14,15; 10,12

## DS1013S-150
designator U?
3-in-1 Silicon Delay Line; PackageDocument: 1999; Note: Pin numbers 2, 3, 5, 7, 10, 12, 14 and 15 are Not Connected (NC); Published: 13-Oct-2000; LatestRevisionDate: 06-Jun-2005; LatestRevisionNote: Stylized 3D Model Added.; DatasheetDocument: 17-Feb-1998; PackageReference: SOIC16W; Publisher: Altium Limited; ComponentLink1Description: Manufacturer Link; ComponentLink1URL: http://www.maxim-ic.com/; ComponentLink2Description: Datasheet; ComponentLink2URL: http://www.maxim-ic.com/getds.cfm?qv_pk=2605&ln=en
footprint SOIC16W (Small Outline; 16 Leads; Body Width 7.5 mm; Pitch 1.27 mm)
3D model SOIC16W (Small Outline; 16 Leads; Body Width 7.5 mm; Pitch 1.27 mm)
pins: 1 IN1 (in), 2 NC, 3 NC, 4 IN2 (in), 5 NC, 6 IN3 (in), 7 NC, 8 GND (power), 9 OUT3 (out), 10 NC, 11 OUT2 (out), 12 NC, 13 OUT1 (out), 14 NC, 15 NC, 16 VCC (power)
text: 2,3; 5,7; 14,15; 10,12

## DS1020-100
designator U?
Programmable 8-Bit Silicon Delay Line; PackageDocument: 1999; Published: 13-Oct-2000; LatestRevisionDate: 06-Jun-2005; LatestRevisionNote: Stylized 3D Model Added.; DatasheetDocument: 17-Feb-1998; PackageReference: DIP16; Publisher: Altium Limited; ComponentLink1Description: Manufacturer Link; ComponentLink1URL: http://www.maxim-ic.com/; ComponentLink2Description: Datasheet; ComponentLink2URL: http://www.maxim-ic.com/getds.cfm?qv_pk=2606&ln=en
footprint DIP16 (DIP; 16 Leads; Row Spacing 7.62 mm; Pitch 2.54 mm)
3D model DIP16 (DIP; 16 Leads; Row Spacing 7.62 mm; Pitch 2.54 mm)
pins: 1 IN (in), 2 EN (in), 3 Q/P0 (io), 4 P1 (in), 5 P2 (in), 6 P3 (in), 7 P4 (in), 8 GND (power), 9 D (in), 10 P5 (in), 11 C (in), 12 P6 (in), 13 P7 (in), 14 S (in), 15 OUT (out), 16 VCC (power)

## DS1020-200
designator U?
Programmable 8-Bit Silicon Delay Line; PackageDocument: 1999; Published: 13-Oct-2000; LatestRevisionDate: 06-Jun-2005; LatestRevisionNote: Stylized 3D Model Added.; DatasheetDocument: 17-Feb-1998; PackageReference: DIP16; Publisher: Altium Limited; ComponentLink1Description: Manufacturer Link; ComponentLink1URL: http://www.maxim-ic.com/; ComponentLink2Description: Datasheet; ComponentLink2URL: http://www.maxim-ic.com/getds.cfm?qv_pk=2606&ln=en
footprint DIP16 (DIP; 16 Leads; Row Spacing 7.62 mm; Pitch 2.54 mm)
3D model DIP16 (DIP; 16 Leads; Row Spacing 7.62 mm; Pitch 2.54 mm)
pins: 1 IN (in), 2 EN (in), 3 Q/P0 (io), 4 P1 (in), 5 P2 (in), 6 P3 (in), 7 P4 (in), 8 GND (power), 9 D (in), 10 P5 (in), 11 C (in), 12 P6 (in), 13 P7 (in), 14 S (in), 15 OUT (out), 16 VCC (power)

## DS1020S-100
designator U?
Programmable 8-Bit Silicon Delay Line; PackageDocument: 1999; Published: 13-Oct-2000; LatestRevisionDate: 06-Jun-2005; LatestRevisionNote: Stylized 3D Model Added.; DatasheetDocument: 17-Feb-1998; PackageReference: SOIC16W; Publisher: Altium Limited; ComponentLink1Description: Manufacturer Link; ComponentLink1URL: http://www.maxim-ic.com/; ComponentLink2Description: Datasheet; ComponentLink2URL: http://www.maxim-ic.com/getds.cfm?qv_pk=2606&ln=en
footprint SOIC16W (Small Outline; 16 Leads; Body Width 7.5 mm; Pitch 1.27 mm)
3D model SOIC16W (Small Outline; 16 Leads; Body Width 7.5 mm; Pitch 1.27 mm)
pins: 1 IN (in), 2 EN (in), 3 Q/P0 (io), 4 P1 (in), 5 P2 (in), 6 P3 (in), 7 P4 (in), 8 GND (power), 9 D (in), 10 P5 (in), 11 C (in), 12 P6 (in), 13 P7 (in), 14 S (in), 15 OUT (out), 16 VCC (power)

## DS1020S-200
designator U?
Programmable 8-Bit Silicon Delay Line; PackageDocument: 1999; Published: 13-Oct-2000; LatestRevisionDate: 06-Jun-2005; LatestRevisionNote: Stylized 3D Model Added.; DatasheetDocument: 17-Feb-1998; PackageReference: SOIC16W; Publisher: Altium Limited; ComponentLink1Description: Manufacturer Link; ComponentLink1URL: http://www.maxim-ic.com/; ComponentLink2Description: Datasheet; ComponentLink2URL: http://www.maxim-ic.com/getds.cfm?qv_pk=2606&ln=en
footprint SOIC16W (Small Outline; 16 Leads; Body Width 7.5 mm; Pitch 1.27 mm)
3D model SOIC16W (Small Outline; 16 Leads; Body Width 7.5 mm; Pitch 1.27 mm)
pins: 1 IN (in), 2 EN (in), 3 Q/P0 (io), 4 P1 (in), 5 P2 (in), 6 P3 (in), 7 P4 (in), 8 GND (power), 9 D (in), 10 P5 (in), 11 C (in), 12 P6 (in), 13 P7 (in), 14 S (in), 15 OUT (out), 16 VCC (power)

## DS1021S-25
designator U?
Programmable 8-Bit Silicon Delay Line; PackageDocument: 1999; Published: 13-Oct-2000; LatestRevisionDate: 06-Jun-2005; LatestRevisionNote: Stylized 3D Model Added.; DatasheetDocument: 17-Feb-1998; PackageReference: SOIC16W; Publisher: Altium Limited; ComponentLink1Description: Manufacturer Link; ComponentLink1URL: http://www.maxim-ic.com/; ComponentLink2Description: Datasheet; ComponentLink2URL: http://www.maxim-ic.com/getds.cfm?qv_pk=2607&ln=en
footprint SOIC16W (Small Outline; 16 Leads; Body Width 7.5 mm; Pitch 1.27 mm)
3D model SOIC16W (Small Outline; 16 Leads; Body Width 7.5 mm; Pitch 1.27 mm)
pins: 1 IN (in), 2 LE (in), 3 Q/P0 (io), 4 P1 (in), 5 P2 (in), 6 P3 (in), 7 P4 (in), 8 GND (power), 9 D (in), 10 P5 (in), 11 C (in), 12 P6 (in), 13 P7 (in), 14 S (in), 15 OUT (out), 16 VCC (power)

## DS1021S-50
designator U?
Programmable 8-Bit Silicon Delay Line; PackageDocument: 1999; Published: 13-Oct-2000; LatestRevisionDate: 06-Jun-2005; LatestRevisionNote: Stylized 3D Model Added.; DatasheetDocument: 17-Feb-1998; PackageReference: SOIC16W; Publisher: Altium Limited; ComponentLink1Description: Manufacturer Link; ComponentLink1URL: http://www.maxim-ic.com/; ComponentLink2Description: Datasheet; ComponentLink2URL: http://www.maxim-ic.com/getds.cfm?qv_pk=2607&ln=en
footprint SOIC16W (Small Outline; 16 Leads; Body Width 7.5 mm; Pitch 1.27 mm)
3D model SOIC16W (Small Outline; 16 Leads; Body Width 7.5 mm; Pitch 1.27 mm)
pins: 1 IN (in), 2 LE (in), 3 Q/P0 (io), 4 P1 (in), 5 P2 (in), 6 P3 (in), 7 P4 (in), 8 GND (power), 9 D (in), 10 P5 (in), 11 C (in), 12 P6 (in), 13 P7 (in), 14 S (in), 15 OUT (out), 16 VCC (power)

## DS1023-025
designator U?
8-Bit Programmable Timing Element; PackageDocument: 1999; Published: 13-Oct-2000; LatestRevisionDate: 06-Jun-2005; LatestRevisionNote: Stylized 3D Model Added.; DatasheetDocument: 24-Jun-1998; PackageReference: DIP16; Publisher: Altium Limited; ComponentLink1Description: Manufacturer Link; ComponentLink1URL: http://www.maxim-ic.com/; ComponentLink2Description: Datasheet; ComponentLink2URL: http://www.maxim-ic.com/getds.cfm?qv_pk=2608&ln=en
footprint DIP16 (DIP; 16 Leads; Row Spacing 7.62 mm; Pitch 2.54 mm)
3D model DIP16 (DIP; 16 Leads; Row Spacing 7.62 mm; Pitch 2.54 mm)
pins: 1 IN (in), 2 LE (in), 3 Q/P0 (io), 4 CLK/P1 (in), 5 D/P2 (in), 6 P3 (in), 7 P4 (in), 8 GND (power), 9 REF/PWM (out), 10 P5 (in), 11 MS (in), 12 P6 (in), 13 P7 (in), 14 ~{P}/S (in), 15 OUT/~{OUT} (out), 16 VCC (power)

## DS1023-050
designator U?
8-Bit Programmable Timing Element; PackageDocument: 1999; Published: 13-Oct-2000; LatestRevisionDate: 06-Jun-2005; LatestRevisionNote: Stylized 3D Model Added.; DatasheetDocument: 24-Jun-1998; PackageReference: DIP16; Publisher: Altium Limited; ComponentLink1Description: Manufacturer Link; ComponentLink1URL: http://www.maxim-ic.com/; ComponentLink2Description: Datasheet; ComponentLink2URL: http://www.maxim-ic.com/getds.cfm?qv_pk=2608&ln=en
footprint DIP16 (DIP; 16 Leads; Row Spacing 7.62 mm; Pitch 2.54 mm)
3D model DIP16 (DIP; 16 Leads; Row Spacing 7.62 mm; Pitch 2.54 mm)
pins: 1 IN (in), 2 LE (in), 3 Q/P0 (io), 4 CLK/P1 (in), 5 D/P2 (in), 6 P3 (in), 7 P4 (in), 8 GND (power), 9 REF/PWM (out), 10 P5 (in), 11 MS (in), 12 P6 (in), 13 P7 (in), 14 ~{P}/S (in), 15 OUT/~{OUT} (out), 16 VCC (power)

## DS1023-100
designator U?
8-Bit Programmable Timing Element; PackageDocument: 1999; Published: 13-Oct-2000; LatestRevisionDate: 06-Jun-2005; LatestRevisionNote: Stylized 3D Model Added.; DatasheetDocument: 24-Jun-1998; PackageReference: DIP16; Publisher: Altium Limited; ComponentLink1Description: Manufacturer Link; ComponentLink1URL: http://www.maxim-ic.com/; ComponentLink2Description: Datasheet; ComponentLink2URL: http://www.maxim-ic.com/getds.cfm?qv_pk=2608&ln=en
footprint DIP16 (DIP; 16 Leads; Row Spacing 7.62 mm; Pitch 2.54 mm)
3D model DIP16 (DIP; 16 Leads; Row Spacing 7.62 mm; Pitch 2.54 mm)
pins: 1 IN (in), 2 LE (in), 3 Q/P0 (io), 4 CLK/P1 (in), 5 D/P2 (in), 6 P3 (in), 7 P4 (in), 8 GND (power), 9 REF/PWM (out), 10 P5 (in), 11 MS (in), 12 P6 (in), 13 P7 (in), 14 ~{P}/S (in), 15 OUT/~{OUT} (out), 16 VCC (power)

## DS1023-200
designator U?
8-Bit Programmable Timing Element; PackageDocument: 1999; Published: 13-Oct-2000; LatestRevisionDate: 06-Jun-2005; LatestRevisionNote: Stylized 3D Model Added.; DatasheetDocument: 24-Jun-1998; PackageReference: DIP16; Publisher: Altium Limited; ComponentLink1Description: Manufacturer Link; ComponentLink1URL: http://www.maxim-ic.com/; ComponentLink2Description: Datasheet; ComponentLink2URL: http://www.maxim-ic.com/getds.cfm?qv_pk=2608&ln=en
footprint DIP16 (DIP; 16 Leads; Row Spacing 7.62 mm; Pitch 2.54 mm)
3D model DIP16 (DIP; 16 Leads; Row Spacing 7.62 mm; Pitch 2.54 mm)
pins: 1 IN (in), 2 LE (in), 3 Q/P0 (io), 4 CLK/P1 (in), 5 D/P2 (in), 6 P3 (in), 7 P4 (in), 8 GND (power), 9 REF/PWM (out), 10 P5 (in), 11 MS (in), 12 P6 (in), 13 P7 (in), 14 ~{P}/S (in), 15 OUT/~{OUT} (out), 16 VCC (power)

## DS1023-500
designator U?
8-Bit Programmable Timing Element; PackageDocument: 1999; Published: 13-Oct-2000; LatestRevisionDate: 06-Jun-2005; LatestRevisionNote: Stylized 3D Model Added.; DatasheetDocument: 24-Jun-1998; PackageReference: DIP16; Publisher: Altium Limited; ComponentLink1Description: Manufacturer Link; ComponentLink1URL: http://www.maxim-ic.com/; ComponentLink2Description: Datasheet; ComponentLink2URL: http://www.maxim-ic.com/getds.cfm?qv_pk=2608&ln=en
footprint DIP16 (DIP; 16 Leads; Row Spacing 7.62 mm; Pitch 2.54 mm)
3D model DIP16 (DIP; 16 Leads; Row Spacing 7.62 mm; Pitch 2.54 mm)
pins: 1 IN (in), 2 LE (in), 3 Q/P0 (io), 4 CLK/P1 (in), 5 D/P2 (in), 6 P3 (in), 7 P4 (in), 8 GND (power), 9 REF/PWM (out), 10 P5 (in), 11 MS (in), 12 P6 (in), 13 P7 (in), 14 ~{P}/S (in), 15 OUT/~{OUT} (out), 16 VCC (power)

## DS1023S-025
designator U?
8-Bit Programmable Timing Element; PackageDocument: 1999; Published: 13-Oct-2000; LatestRevisionDate: 06-Jun-2005; LatestRevisionNote: Stylized 3D Model Added.; DatasheetDocument: 24-Jun-1998; PackageReference: SOIC16W; Publisher: Altium Limited; ComponentLink1Description: Manufacturer Link; ComponentLink1URL: http://www.maxim-ic.com/; ComponentLink2Description: Datasheet; ComponentLink2URL: http://www.maxim-ic.com/getds.cfm?qv_pk=2608&ln=en
footprint SOIC16W (Small Outline; 16 Leads; Body Width 7.5 mm; Pitch 1.27 mm)
3D model SOIC16W (Small Outline; 16 Leads; Body Width 7.5 mm; Pitch 1.27 mm)
pins: 1 IN (in), 2 LE (in), 3 Q/P0 (io), 4 CLK/P1 (in), 5 D/P2 (in), 6 P3 (in), 7 P4 (in), 8 GND (power), 9 REF/PWM (out), 10 P5 (in), 11 MS (in), 12 P6 (in), 13 P7 (in), 14 ~{P}/S (in), 15 OUT/~{OUT} (out), 16 VCC (power)

## DS1023S-050
designator U?
8-Bit Programmable Timing Element; PackageDocument: 1999; Published: 13-Oct-2000; LatestRevisionDate: 06-Jun-2005; LatestRevisionNote: Stylized 3D Model Added.; DatasheetDocument: 24-Jun-1998; PackageReference: SOIC16W; Publisher: Altium Limited; ComponentLink1Description: Manufacturer Link; ComponentLink1URL: http://www.maxim-ic.com/; ComponentLink2Description: Datasheet; ComponentLink2URL: http://www.maxim-ic.com/getds.cfm?qv_pk=2608&ln=en
footprint SOIC16W (Small Outline; 16 Leads; Body Width 7.5 mm; Pitch 1.27 mm)
3D model SOIC16W (Small Outline; 16 Leads; Body Width 7.5 mm; Pitch 1.27 mm)
pins: 1 IN (in), 2 LE (in), 3 Q/P0 (io), 4 CLK/P1 (in), 5 D/P2 (in), 6 P3 (in), 7 P4 (in), 8 GND (power), 9 REF/PWM (out), 10 P5 (in), 11 MS (in), 12 P6 (in), 13 P7 (in), 14 ~{P}/S (in), 15 OUT/~{OUT} (out), 16 VCC (power)

## DS1023S-100
designator U?
8-Bit Programmable Timing Element; PackageDocument: 1999; Published: 13-Oct-2000; LatestRevisionDate: 06-Jun-2005; LatestRevisionNote: Stylized 3D Model Added.; DatasheetDocument: 24-Jun-1998; PackageReference: SOIC16W; Publisher: Altium Limited; ComponentLink1Description: Manufacturer Link; ComponentLink1URL: http://www.maxim-ic.com/; ComponentLink2Description: Datasheet; ComponentLink2URL: http://www.maxim-ic.com/getds.cfm?qv_pk=2608&ln=en
footprint SOIC16W (Small Outline; 16 Leads; Body Width 7.5 mm; Pitch 1.27 mm)
3D model SOIC16W (Small Outline; 16 Leads; Body Width 7.5 mm; Pitch 1.27 mm)
pins: 1 IN (in), 2 LE (in), 3 Q/P0 (io), 4 CLK/P1 (in), 5 D/P2 (in), 6 P3 (in), 7 P4 (in), 8 GND (power), 9 REF/PWM (out), 10 P5 (in), 11 MS (in), 12 P6 (in), 13 P7 (in), 14 ~{P}/S (in), 15 OUT/~{OUT} (out), 16 VCC (power)

## DS1023S-200
designator U?
8-Bit Programmable Timing Element; PackageDocument: 1999; Published: 13-Oct-2000; LatestRevisionDate: 06-Jun-2005; LatestRevisionNote: Stylized 3D Model Added.; DatasheetDocument: 24-Jun-1998; PackageReference: SOIC16W; Publisher: Altium Limited; ComponentLink1Description: Manufacturer Link; ComponentLink1URL: http://www.maxim-ic.com/; ComponentLink2Description: Datasheet; ComponentLink2URL: http://www.maxim-ic.com/getds.cfm?qv_pk=2608&ln=en
footprint SOIC16W (Small Outline; 16 Leads; Body Width 7.5 mm; Pitch 1.27 mm)
3D model SOIC16W (Small Outline; 16 Leads; Body Width 7.5 mm; Pitch 1.27 mm)
pins: 1 IN (in), 2 LE (in), 3 Q/P0 (io), 4 CLK/P1 (in), 5 D/P2 (in), 6 P3 (in), 7 P4 (in), 8 GND (power), 9 REF/PWM (out), 10 P5 (in), 11 MS (in), 12 P6 (in), 13 P7 (in), 14 ~{P}/S (in), 15 OUT/~{OUT} (out), 16 VCC (power)

## DS1023S-500
designator U?
8-Bit Programmable Timing Element; PackageDocument: 1999; Published: 13-Oct-2000; LatestRevisionDate: 06-Jun-2005; LatestRevisionNote: Stylized 3D Model Added.; DatasheetDocument: 24-Jun-1998; PackageReference: SOIC16W; Publisher: Altium Limited; ComponentLink1Description: Manufacturer Link; ComponentLink1URL: http://www.maxim-ic.com/; ComponentLink2Description: Datasheet; ComponentLink2URL: http://www.maxim-ic.com/getds.cfm?qv_pk=2608&ln=en
footprint SOIC16W (Small Outline; 16 Leads; Body Width 7.5 mm; Pitch 1.27 mm)
3D model SOIC16W (Small Outline; 16 Leads; Body Width 7.5 mm; Pitch 1.27 mm)
pins: 1 IN (in), 2 LE (in), 3 Q/P0 (io), 4 CLK/P1 (in), 5 D/P2 (in), 6 P3 (in), 7 P4 (in), 8 GND (power), 9 REF/PWM (out), 10 P5 (in), 11 MS (in), 12 P6 (in), 13 P7 (in), 14 ~{P}/S (in), 15 OUT/~{OUT} (out), 16 VCC (power)

## DS1033E-08
designator U?
3-in-1 Low-Voltage Silicon Delay Line; Published: 13-Oct-2000; LatestRevisionDate: 06-Jun-2005; LatestRevisionNote: Stylized 3D Model Added.; DatasheetDocument: 6-Apr-1994; PackageReference: TSSOP20; Publisher: Altium Limited; ComponentLink1Description: Manufacturer Link; ComponentLink1URL: http://www.maxim-ic.com/; ComponentLink2Description: Datasheet; ComponentLink2URL: http://www.maxim-ic.com/getds.cfm?qv_pk=2609&ln=en
footprint TSSOP20 (Shrink Small Outline; 20 Leads; Body Width 4.4 mm; Pitch 0.65 mm)
3D model TSSOP20 (Shrink Small Outline; 20 Leads; Body Width 4.4 mm; Pitch 0.65 mm)
pins: 1 IN1 (in), 2 NC, 3 NC, 4 IN2 (in), 5 NC, 6 NC, 7 IN3 (in), 8 NC, 9 NC, 10 GND (power), 11 OUT3 (out), 12 NC, 13 NC, 14 OUT2 (out), 15 NC, 16 NC, 17 OUT1 (out), 18 NC, 19 NC, 20 VCC (power)
text: 2,3,5; 6,8,9; 12,13; 18,19; 15,16